# EAGLE library part STM32-BLUE (library Jonathan)
STM32 Blue Pill <https://wiki.stm32duino.com/index.php?title=Blue_Pill> Designed for the STM32F103 microcontroller board. V1.0 by Jonathan Ho May 2019
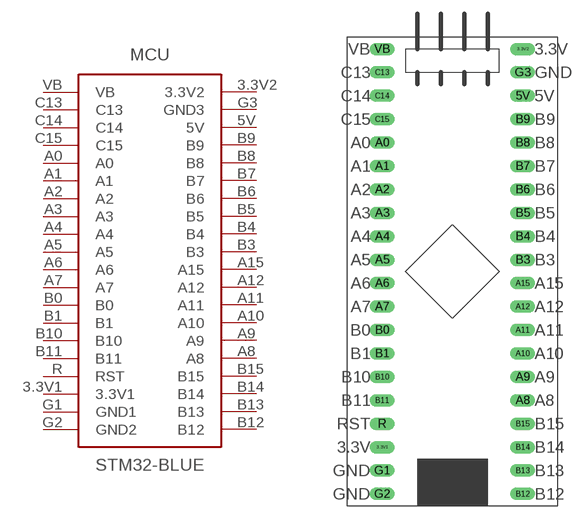
[diagram p0: symbol with the pads of STM32-BLUE; footprint STM32-BLUE]

Designator prefix MCU

## STM32-BLUE  [STM32-BLUE]
3.3V1  3.3V1  pwr
3.3V2  3.3V2  pwr
5V  5V  pwr
A0  A0
A1  A1
A2  A2
A3  A3
A4  A4
A5  A5
A6  A6
A7  A7
A8  A8
A9  A9
A10  A10
A11  A11
A12  A12
A15  A15
B0  B0
B1  B1
B3  B3
B4  B4
B5  B5
B6  B6
B7  B7
B8  B8
B9  B9
B10  B10
B11  B11
B12  B12
B13  B13
B14  B14
B15  B15
C13  C13
C14  C14
C15  C15
G1  GND1  pwr
G2  GND2  pwr
G3  GND3  pwr
R  RST
VB  VB  pwr

## Footprint STM32-BLUE (pad centres in mm)
drill 0.85 long: 3.3V1 -7.62,-19.05; 3.3V2 7.62,24.13; 5V 7.62,19.05; A0 -7.62,13.97; A1 -7.62,11.43; A2 -7.62,8.89; A3 -7.62,6.35; A4 -7.62,3.81; A5 -7.62,1.27; A6 -7.62,-1.27; A7 -7.62,-3.81; A8 7.62,-13.97; A9 7.62,-11.43; A10 7.62,-8.89; A11 7.62,-6.35; A12 7.62,-3.81; A15 7.62,-1.27; B0 -7.62,-6.35; B1 -7.62,-8.89; B3 7.62,1.27; B4 7.62,3.81; B5 7.62,6.35; B6 7.62,8.89; B7 7.62,11.43; B8 7.62,13.97; B9 7.62,16.51; B10 -7.62,-11.43; B11 -7.62,-13.97; B12 7.62,-24.13; B13 7.62,-21.59; B14 7.62,-19.05; B15 7.62,-16.51; C13 -7.62,21.59; C14 -7.62,19.05; C15 -7.62,16.51; G1 -7.62,-21.59; G2 -7.62,-24.13; G3 7.62,21.59; R -7.62,-16.51; VB -7.62,24.13